# EAGLE library part AZV3002S-13 (library AZV3002S-13)
Analog Comparators Dual Ch Comparator 6uA 1pA 1.6 to 5.5V Source: Datasheet <https://www.diodes.com//assets/Datasheets/AZV3001.pdf>
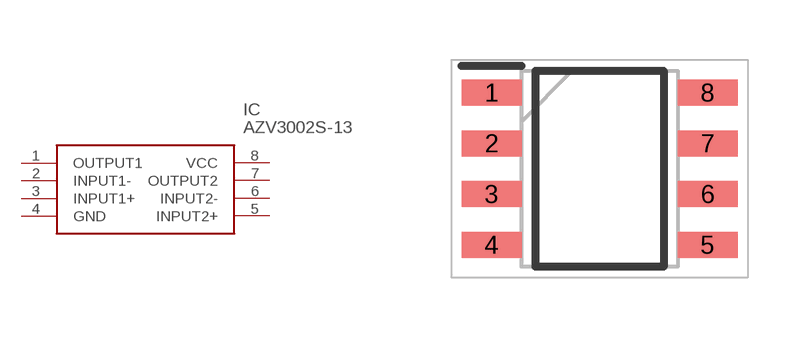
[diagram p0: symbol with the pads of SOIC127P600X175-8N; footprint SOIC127P600X175-8N]

Designator prefix IC

## AZV3002S-13 (Arrow_Part_Number: AZV3002S-13; Arrow_Price-Stock: https://www.arrow.com/en/products/azv3002s-13/diodes-incorporated?utm_currency=USD&region=nac; Description: Analog Comparators Dual Ch Comparator 6uA 1pA 1.6 to 5.5V; Height: 1.75mm; Manufacturer_Name: Diodes Incorporated; Manufacturer_Part_Number: AZV3002S-13; Mouser_Part_Number: 621-AZV3002S-13; Mouser_Price-Stock: https://www.mouser.co.uk/ProductDetail/Diodes-Incorporated/AZV3002S-13?qs=ma0NyvTRVt0EcfML8tbxlQ%3D%3D)  [SOIC127P600X175-8N]
1  OUTPUT1
2  INPUT1-
3  INPUT1+
4  GND
5  INPUT2+
6  INPUT2-
7  OUTPUT2
8  VCC

## Footprint SOIC127P600X175-8N (pad centres in mm)
SO-8
smd 1.5 x 0.65: 1 -2.7,1.905; 2 -2.7,0.635; 3 -2.7,-0.635; 4 -2.7,-1.905; 5 2.7,-1.905; 6 2.7,-0.635; 7 2.7,0.635; 8 2.7,1.905